# EAGLE library part CLP-111-XX-X-DH-XX (library con-samtec-clp)
RECEPTACAL
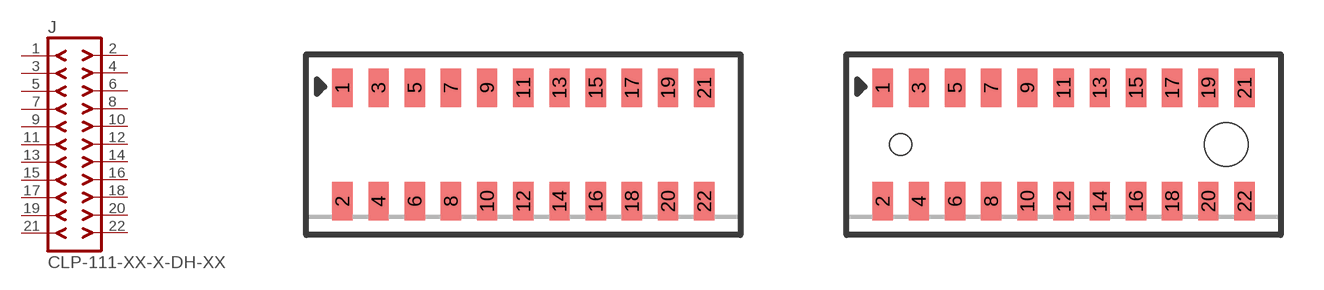
[diagram p7: symbol with the pads of CLP-111-XX-X-DH; footprints CLP-111-XX-X-DH, CLP-111-XX-X-DH-A]

Designator prefix J

## CLP-111-XX-X-DH-XX  [CLP-111-XX-X-DH]
1  1  pas
2  2  pas
3  3  pas
4  4  pas
5  5  pas
6  6  pas
7  7  pas
8  8  pas
9  9  pas
10  10  pas
11  11  pas
12  12  pas
13  13  pas
14  14  pas
15  15  pas
16  16  pas
17  17  pas
18  18  pas
19  19  pas
20  20  pas
21  21  pas
22  22  pas

## CLP-111-XX-X-DH-XXA  [CLP-111-XX-X-DH-A]
Pads as for CLP-111-XX-X-DH

## Footprint CLP-111-XX-X-DH (pad centres in mm)
RECEPTACAL
smd 0.711 x 1.346: 1 -6.35,1.994; 2 -6.35,-1.994; 3 -5.08,1.994; 4 -5.08,-1.994; 5 -3.81,1.994; 6 -3.81,-1.994; 7 -2.54,1.994; 8 -2.54,-1.994; 9 -1.27,1.994; 10 -1.27,-1.994; 11 0,1.994; 12 0,-1.994; 13 1.27,1.994; 14 1.27,-1.994; 15 2.54,1.994; 16 2.54,-1.994; 17 3.81,1.994; 18 3.81,-1.994; 19 5.08,1.994; 20 5.08,-1.994; 21 6.35,1.994; 22 6.35,-1.994

## Footprint CLP-111-XX-X-DH-A (pad centres in mm)
RECEPTACAL
smd 0.711 x 1.346: 1 -6.35,1.994; 2 -6.35,-1.994; 3 -5.08,1.994; 4 -5.08,-1.994; 5 -3.81,1.994; 6 -3.81,-1.994; 7 -2.54,1.994; 8 -2.54,-1.994; 9 -1.27,1.994; 10 -1.27,-1.994; 11 0,1.994; 12 0,-1.994; 13 1.27,1.994; 14 1.27,-1.994; 15 2.54,1.994; 16 2.54,-1.994; 17 3.81,1.994; 18 3.81,-1.994; 19 5.08,1.994; 20 5.08,-1.994; 21 6.35,1.994; 22 6.35,-1.994
hole 0.762 at -5.715,0
hole 1.524 at 5.715,0